# EAGLE library part TBP02R2W-381-06BE (library TBP02R2W-381-06BE)
TBP02R2W-381 Series - 2~24 Poles, Pluggable, Receptacle, Vertical, 3.81 Pitch, Terminal Block Connector Source: Datasheet <https://www.sameskydevices.com/product/resource/tbp02r2w-381.pdf>
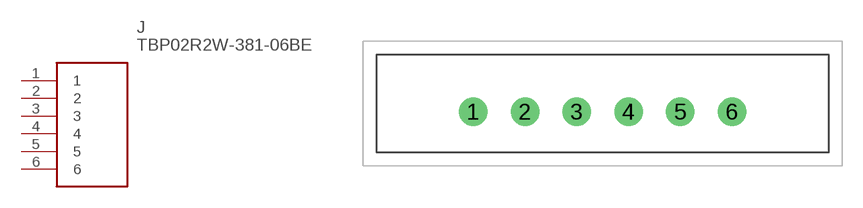
[diagram p0: symbol with the pads of TBP02R2W38106BE; footprint TBP02R2W38106BE]

Designator prefix J

## TBP02R2W-381-06BE (Description: TBP02R2W-381 Series - 2~24 Poles, Pluggable, Receptacle, Vertical, 3.81 Pitch, Terminal Block Connector; Height: 9.6mm; Manufacturer_Name: Same Sky; Manufacturer_Part_Number: TBP02R2W-381-06BE; Mouser_Part_Number: 490-TBP02R2W-38106BE; Mouser_Price-Stock: https://www.mouser.co.uk/ProductDetail/CUI-Devices/TBP02R2W-381-06BE?qs=PzGy0jfpSMtr%2Ft0bFoapMQ%3D%3D)  [TBP02R2W38106BE]
1  1
2  2
3  3
4  4
5  5
6  6

## Footprint TBP02R2W38106BE (pad centres in mm)
TBP02R2W-381-06BE-1
drill 1.4 pad 2.1: 1 0,0; 2 3.81,0; 3 7.62,0; 4 11.43,0; 5 15.24,0; 6 19.05,0